# Altium footprint library reed_switch.PcbLib: 2 footprints
Each footprint in its own frame and in the unit in brackets; x right, y up, seen from the top. Pads: shape width x height; smd on the part's side, far side on the other; paste and mask are expansions set on the pad; w line width, h text height; cw(c..) or ccw(c..) is an arc to the next point about the centre after c.
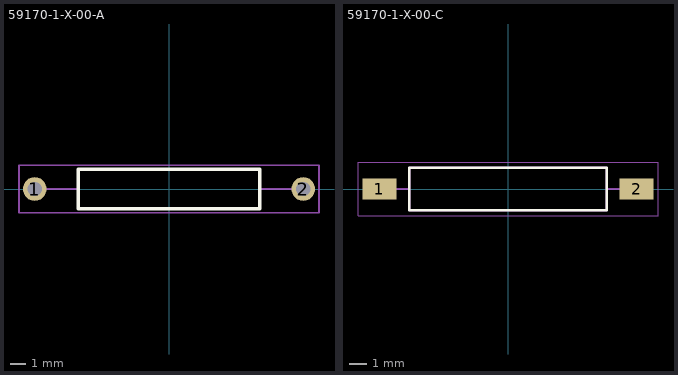
[diagram p0: the footprints below, top view; thin cyan lines are the x and y axes]

## 59170-1-X-00-A [mm]
pads (2):
  round 1.5 hole 0.9: 1(-8.5,0) 2(8.5,0)
Top Overlay:
  lines w0.2: -5.75,-1.25 5.75,-1.25 5.75,1.25 -5.75,1.25 -5.75,-1.25
Top Assembly:
  lines w0.1: -8.5,0 -5.75,0 ; 5.75,0 8.5,0 ; -5.75,-1.25 5.75,-1.25 5.75,1.25 -5.75,1.25 -5.75,-1.25
  text ".Designator" at -4.998,-0.333 h1
Top Courtyard (Mech15):
  lines w0.1: -9.5,-1.5 9.5,-1.5 9.5,1.5 -9.5,1.5 -9.5,-1.5
3D body "GERKON.STEP": height 3.45, standoff -8.5, extent -8.715,-1.45 8.715,1.45

## 59170-1-X-00-C [mm]
pads (2):
  rect 2x1.2 smd: 1(-7.5,0) 2(7.5,0)
Top Overlay:
  lines w0.15: -5.75,-1.25 -5.75,1.25 5.75,1.25 5.75,-1.25 -5.75,-1.25
Top Assembly:
  lines w0.1: -7.5,0 -5.75,0 ; 5.75,0 7.5,0 ; -5.75,-1.25 -5.75,1.25 5.75,1.25 5.75,-1.25 -5.75,-1.25
  text ".Designator" at -4.998,-0.333 h1
Top Courtyard (Mech15):
  lines w0.05: -8.75,-1.55 -8.75,1.55 8.75,1.55 8.75,-1.55 -8.75,-1.55